# Altium footprint library PcbLib1.PcbLib: 15 footprints
Each footprint in its own frame and in the unit in brackets; x right, y up, seen from the top. Pads: shape width x height; smd on the part's side, far side on the other; paste and mask are expansions set on the pad; w line width, h text height; cw(c..) or ccw(c..) is an arc to the next point about the centre after c.
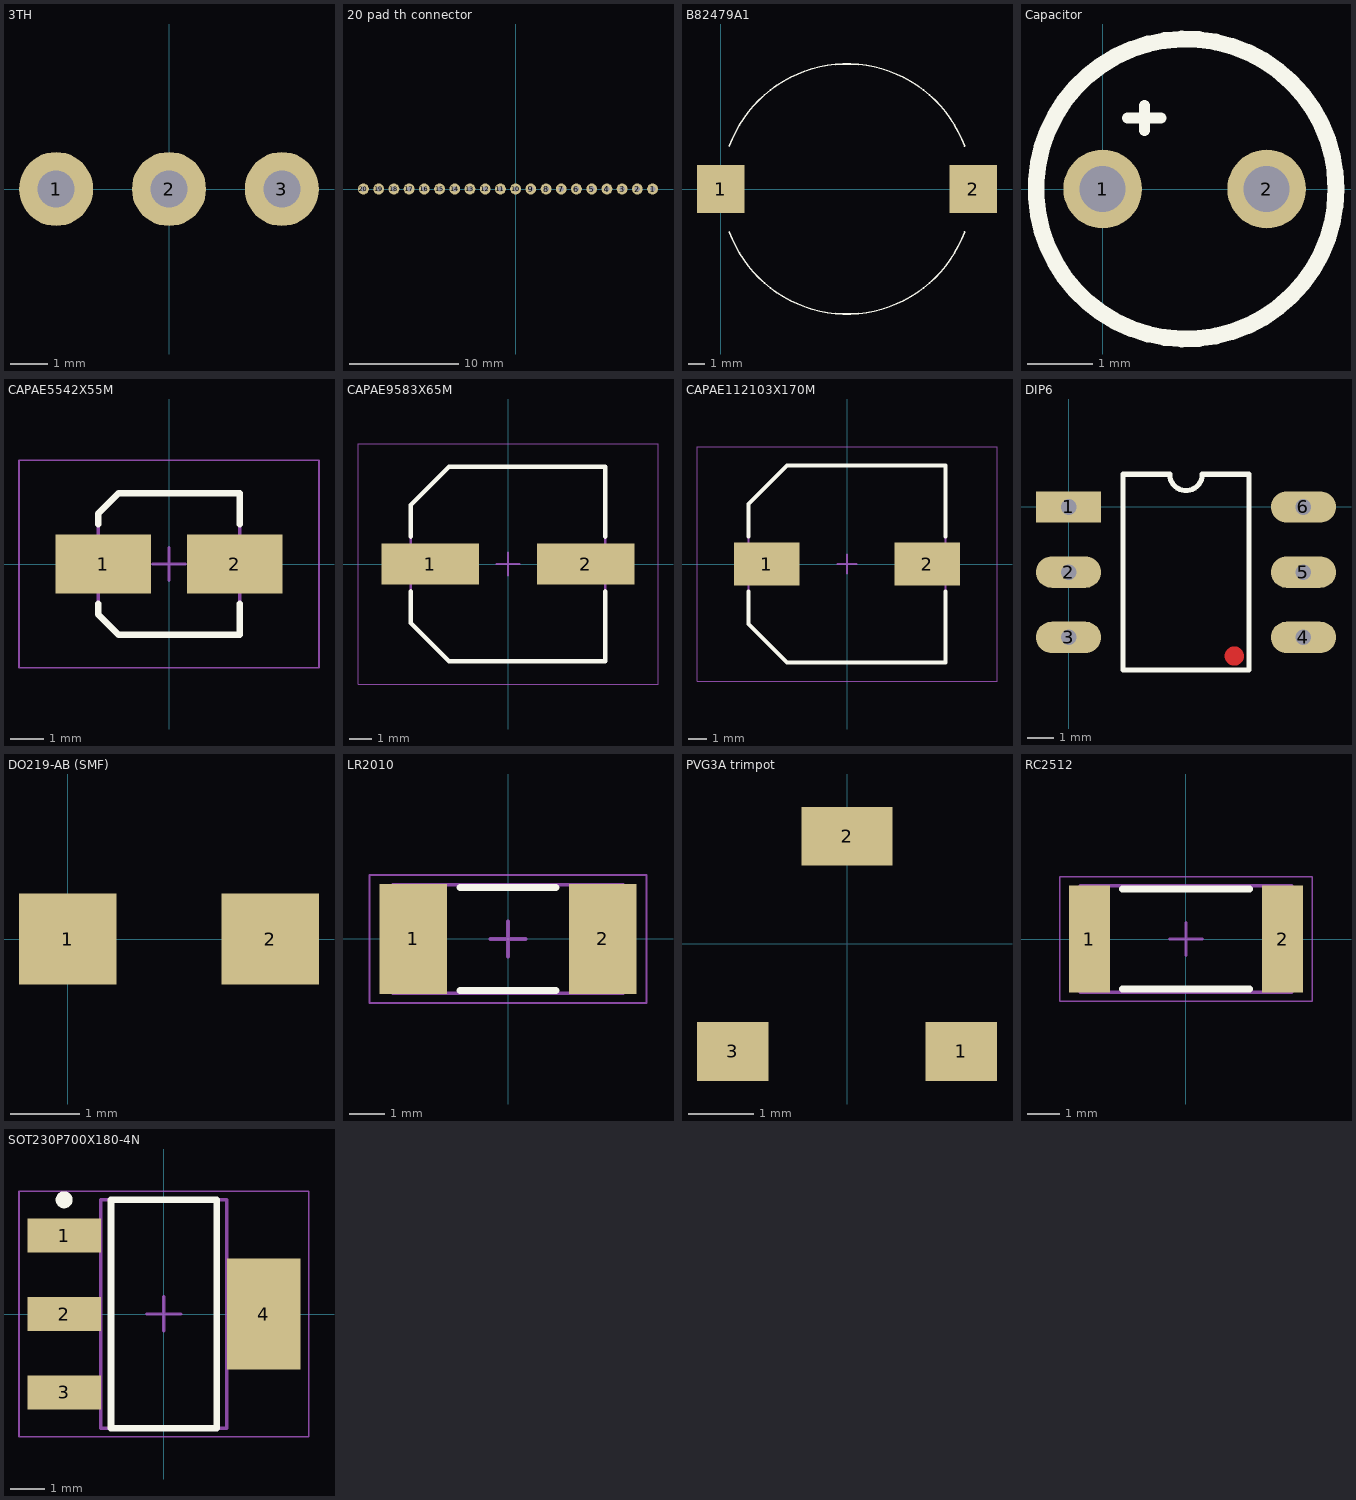
[diagram p0: the footprints below, top view; thin cyan lines are the x and y axes]

## 3TH [mm]
pads (3):
  round 2 hole 1: 1(-3.048,0) 2(0,0) 3(3.048,0)

## 20 pad th connector [mm]
pads (20):
  round 1 hole 0.5: 1(12.573,0) 2(11.176,0) 3(9.779,0) 4(8.382,0) 5(6.985,0) 6(5.588,0) 7(4.191,0) 8(2.794,0) 9(1.397,0) 10(0,0) 11(-1.397,0) 12(-2.794,0) 13(-4.191,0) 14(-5.588,0) 15(-6.985,0) 16(-8.382,0) 17(-9.779,0) 18(-11.176,0) 19(-12.573,0) 20(-13.97,0)

## B82479A1 [mm] "Inductor"
pads (2):
  rect 2.9x2.9 smd: 1(0,0) 2(15.37,0)
Top Overlay:
  lines w0.1: 0.524,-2.606 ccw(c7.684,0) 14.844,-2.606 ; 0.523,2.606 cw(c7.683,0) 14.844,2.606

## cap TH 5mm [mm]

## Capacitor [mm]
pads (2):
  round 1.2 hole 0.7: 1(0,0) 2(2.5,0)
Top Overlay:
  circle w0.254: c1.27,0 r2.286
  lines w0.168: 0.381,1.079 0.889,1.079 ; 0.635,0.889 0.635,1.27

## CAPAE5542X55M [mm] "Aluminum Electrolytic Capacitor, Body 4,20x4,20x5,50mm, IPC Low Density"
height 5.5
pads (2):
  rect 2.9x1.8 smd: 1(-2,0) 2(2,0)
Top Overlay:
  lines w0.2: -2.15,-1.2 -2.15,-1.525 -1.525,-2.15 2.15,-2.15 2.15,-1.2 ; -2.15,1.2 -2.15,1.525 -1.525,2.15 2.15,2.15 2.15,1.2
Mechanical 13:
  lines w0.1: -2.15,-1.525 -1.525,-2.15 2.15,-2.15 2.15,2.15 -1.525,2.15 -2.15,1.525 -2.15,-1.525
Mechanical 15:
  lines w0.05: -4.55,-3.15 -4.55,3.15 4.55,3.15 4.55,-3.15 -4.55,-3.15
  lines w0.1: -0.5,0 0.5,0 ; 0,-0.5 0,0.5
3D body "CAPAE5542X55M.step": height 5.5, standoff 0, extent -2.75,-2.15 2.75,2.15

## CAPAE9583X65M [mm] "Aluminum Electrolytic Capacitor, Body 8,30x8,30x6,50mm, IPC Low Density"
height 6.5
pads (2):
  rect 4.25x1.8 smd: 1(-3.4,0) 2(3.4,0)
Top Overlay:
  lines w0.2: -4.25,-1.2 -4.25,-2.575 -2.575,-4.25 4.25,-4.25 4.25,-1.2 ; -4.25,1.2 -4.25,2.575 -2.575,4.25 4.25,4.25 4.25,1.2
Mechanical 13:
  lines w0.1: -4.25,-2.575 -2.575,-4.25 4.25,-4.25 4.25,4.25 -2.575,4.25 -4.25,2.575 -4.25,-2.575
Mechanical 15:
  lines w0.05: -6.55,-5.25 -6.55,5.25 6.55,5.25 6.55,-5.25 -6.55,-5.25
  lines w0.1: -0.5,0 0.5,0 ; 0,-0.5 0,0.5
3D body "CAPAE9583X65M.step": height 6.5, standoff -1.5, extent -4.75,-4.25 4.75,4.25

## CAPAE112103X170M [mm] "Aluminum Electrolytic Capacitor, Body 10,30x10,30x17,00mm, IPC Low Density"
height 17
pads (2):
  rect 3.5x2.3 smd: 1(-4.275,0) 2(4.275,0)
Top Overlay:
  lines w0.2: -5.25,-1.45 -5.25,-3.2 -3.2,-5.25 5.25,-5.25 5.25,-1.45 ; -5.25,1.45 -5.25,3.2 -3.2,5.25 5.25,5.25 5.25,1.45
Mechanical 13:
  lines w0.1: -5.25,-3.2 -3.2,-5.25 5.25,-5.25 5.25,5.25 -3.2,5.25 -5.25,3.2 -5.25,-3.2
Mechanical 15:
  lines w0.05: -8,-6.25 -8,6.25 8,6.25 8,-6.25 -8,-6.25
  lines w0.1: -0.5,0 0.5,0 ; 0,-0.5 0,0.5
3D body "CAPAE112103X170M.step": height 17, standoff 0, extent -5.625,-5.25 5.625,5.25

## DIP6 [mm]
pads (6):
  rect 2.5x1.2 hole 0.6: 1(0,0)
  oval 2.5x1.2 hole 0.6: 2(0,-2.5) 3(0,-5) 4(9,-5) 5(9,-2.5) 6(9,0)
Top Layer:
  circle w0.381: c6.35,-5.715 r0.18
Top Overlay:
  lines w0.2: 2.085,-6.25 6.915,-6.25 6.915,1.25 5.125,1.25 cw(c4.5,1.25) 3.875,1.25 2.085,1.25 2.085,-6.25

## DIP-16 [mm]

## DO219-AB (SMF) [mm]
pads (2):
  rect 1.4x1.3 smd: 1(0,0) 2(2.9,0)

## LR2010 [mm] "Chip Resistor, 2-Leads, Body 6,50x3,05mm, IPC Medium Density"
height 0.84
pads (2):
  rect 1.9x3.1 smd: 1(-2.675,0) 2(2.675,0)
Top Overlay:
  lines w0.2: -1.35,-1.45 1.35,-1.45 ; -1.35,1.45 1.35,1.45
Mechanical 13:
  lines w0.1: -3.25,-1.525 3.25,-1.525 3.25,1.525 -3.25,1.525 -3.25,-1.525
Mechanical 15:
  lines w0.05: -3.9,-1.8 3.9,-1.8 3.9,1.8 -3.9,1.8 -3.9,-1.8
  lines w0.1: -0.5,0 0.5,0 ; 0,-0.5 0,0.5
3D body: height 0.84, standoff 0, extent 1.75,-1.525 3.25,1.525
3D body: height 0.84, standoff 0, extent -3.25,-1.525 -1.75,1.525
3D body: height 0.84, standoff 0, extent -1.75,-1.525 1.75,1.525

## PVG3A trimpot [mm]
pads (3):
  rect 1.1x0.9 smd: 1(1.75,-1.65) 3(-1.75,-1.65)
  rect 1.4x0.9 smd: 2(0,1.65)

## RC2512 [mm]
height 0.65
pads (2):
  rect 1.25x3.25 smd: 1(-2.95,0) 2(2.95,0)
Top Overlay:
  lines w0.2: -1.95,-1.525 1.95,-1.525 ; -1.95,1.525 1.95,1.525
Mechanical 13:
  lines w0.1: -3.225,-1.625 3.225,-1.625 3.225,1.625 -3.225,1.625 -3.225,-1.625
Mechanical 15:
  lines w0.05: -3.85,-1.9 3.85,-1.9 3.85,1.9 -3.85,1.9 -3.85,-1.9
  lines w0.1: -0.5,0 0.5,0 ; 0,-0.5 0,0.5
3D body "RC2512.step": height 0.65, standoff 0, extent -3.225,-1.625 3.225,1.625

## SOT230P700X180-4N [mm] "SOT223, 4-Leads, Body 6,50x7,00mm (avg), Pitch 2,30mm, IPC Medium Density"
height 1.8
pads (4):
  rect 2.15x1 smd: 1(-2.925,2.3) 2(-2.925,0) 3(-2.925,-2.3)
  rect 2.15x3.25 smd: 4(2.925,0)
Top Overlay:
  circle w0.25: c-2.925,3.35 r0.125
  lines w0.2: -1.55,-3.35 -1.55,3.35 1.55,3.35 1.55,-3.35 -1.55,-3.35
Mechanical 13:
  lines w0.1: -1.85,-3.35 -1.85,3.35 1.85,3.35 1.85,-3.35 -1.85,-3.35
Mechanical 15:
  lines w0.05: -4.25,-3.6 -4.25,3.6 4.25,3.6 4.25,-3.6 -4.25,-3.6
  lines w0.1: -0.5,0 0.5,0 ; 0,-0.5 0,0.5
3D body "SOT230P700X180-4N.step": height 1.8, standoff 0, extent -3.5,-3.35 3.5,3.35